# Altium footprint library Quartz.PcbLib: 2 footprints
Each footprint in its own frame and in the unit in brackets; x right, y up, seen from the top. Pads: shape width x height; smd on the part's side, far side on the other; paste and mask are expansions set on the pad; w line width, h text height; cw(c..) or ccw(c..) is an arc to the next point about the centre after c.
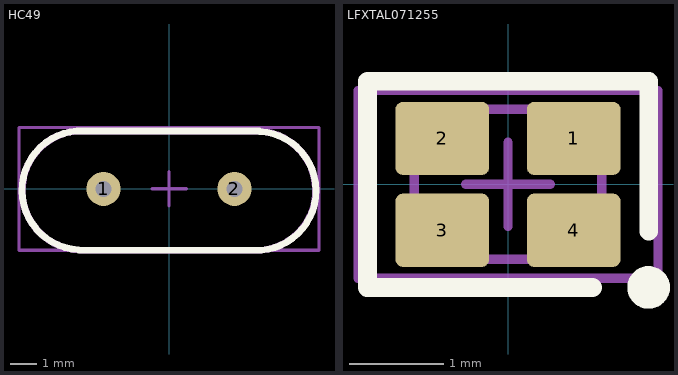
[diagram p0: the footprints below, top view; thin cyan lines are the x and y axes]

## HC49 [mm]
pads (2):
  round 1.27 hole 0.6: 1(-2.44,0) 2(2.44,0)
Top Overlay:
  lines w0.254: -3.382,-2.267 cw(c-3.259,-0.052) -3.429,2.159 3.363,2.159 ; -3.363,-2.286 3.429,-2.286 ccw(c3.259,-0.075) 3.382,2.14
Mechanical 13:
  lines w0.254: -3.429,2.159 ccw(c-3.242,-0.06) -3.302,-2.286 3.429,-2.286 ccw(c3.235,-0.067) 3.302,2.159 -3.429,2.159
Mechanical 15:
  lines w0.127: -0.635,0 0.635,0 ; 0,-0.635 0,0.635 ; -5.588,-2.286 -5.588,2.286 5.588,2.286 5.588,-2.286 -5.588,-2.286
Mechanical 17:
  text ".Designator" at -5.207,-1.905 h2
3D body "User Library-HC49S-1.STEP": height 3.6, standoff -3, extent -5.49,-2.245 5.49,2.246

## LFXTAL071255 [mm] "Chip L4-lead, 2mm x 1.6mm"
height 0.5
pads (4):
  rrect20% 1x0.78 smd: 1(0.7,0.49) 2(-0.7,0.49) 3(-0.7,-0.49) 4(0.7,-0.49)
Top Overlay:
  circle w0.254: c1.5,-1.1 r0.1
  lines w0.2: 0.9,-1.1 -1.5,-1.1 -1.5,1.1 1.5,1.1 1.5,-0.5
Mechanical 13:
  lines w0.1: -1,-0.8 -1,0.8 1,0.8 1,-0.8 -1,-0.8
Mechanical 15:
  lines w0.1: -0.45,0 0.45,0 ; 0,-0.45 0,0.45 ; -1.6,-1 -1.6,1 1.6,1 1.6,-1 -1.6,-1
3D body: height 0.5, standoff 0.4, extent -0.9,-0.7 0.9,0.7
3D body: height 0.4, standoff 0, extent -1,-0.8 1,0.8